# EAGLE library part FAN5340 (library AR_IC)
FAN5340 LED Driver (Fairchild)
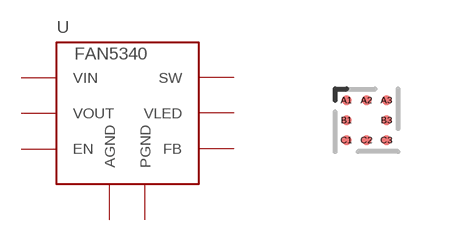
[diagram p0: symbol with the pads of 8-WLCSP; footprint 8-WLCSP]

Designator prefix -

## FAN5340  [8-WLCSP]
A1  AGND
A2  EN
A3  VLED
B1  VIN
B3  FB
C1  VOUT
C2  SW
C3  PGND

## Footprint 8-WLCSP (pad centres in mm)
smd 0.25 x 0.25: A1 -0.5,0.5; A2 0,0.5; A3 0.5,0.5; B1 -0.5,0; B3 0.5,0; C1 -0.5,-0.5; C2 0,-0.5; C3 0.5,-0.5